# Altium schematic symbol library Allegro.SchLib: 1 symbol
Pins are listed as number, name and electrical type; pins without a type are passive.

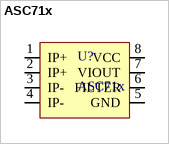
[diagram p0: symbol ASC71x]

## ASC71x
designator U?
Value: ACS712ELCTR-05B-T; Catalog: Farnell; Catalog number: 1329623; Price: 2.97; Catalog page: http://lv.farnell.com/allegro-microsystems/acs712elctr-05b-t/ic-sensor-current-5a-soic8-712/dp/1329623
footprint SO-8
pins: 1 IP+, 2 IP+, 3 IP-, 4 IP-, 5 GND, 6 FILTER, 7 VIOUT, 8 VCC